# Altium schematic symbol library Processor.SchLib: 6 symbols
Pins are listed as number, name and electrical type; pins without a type are passive.

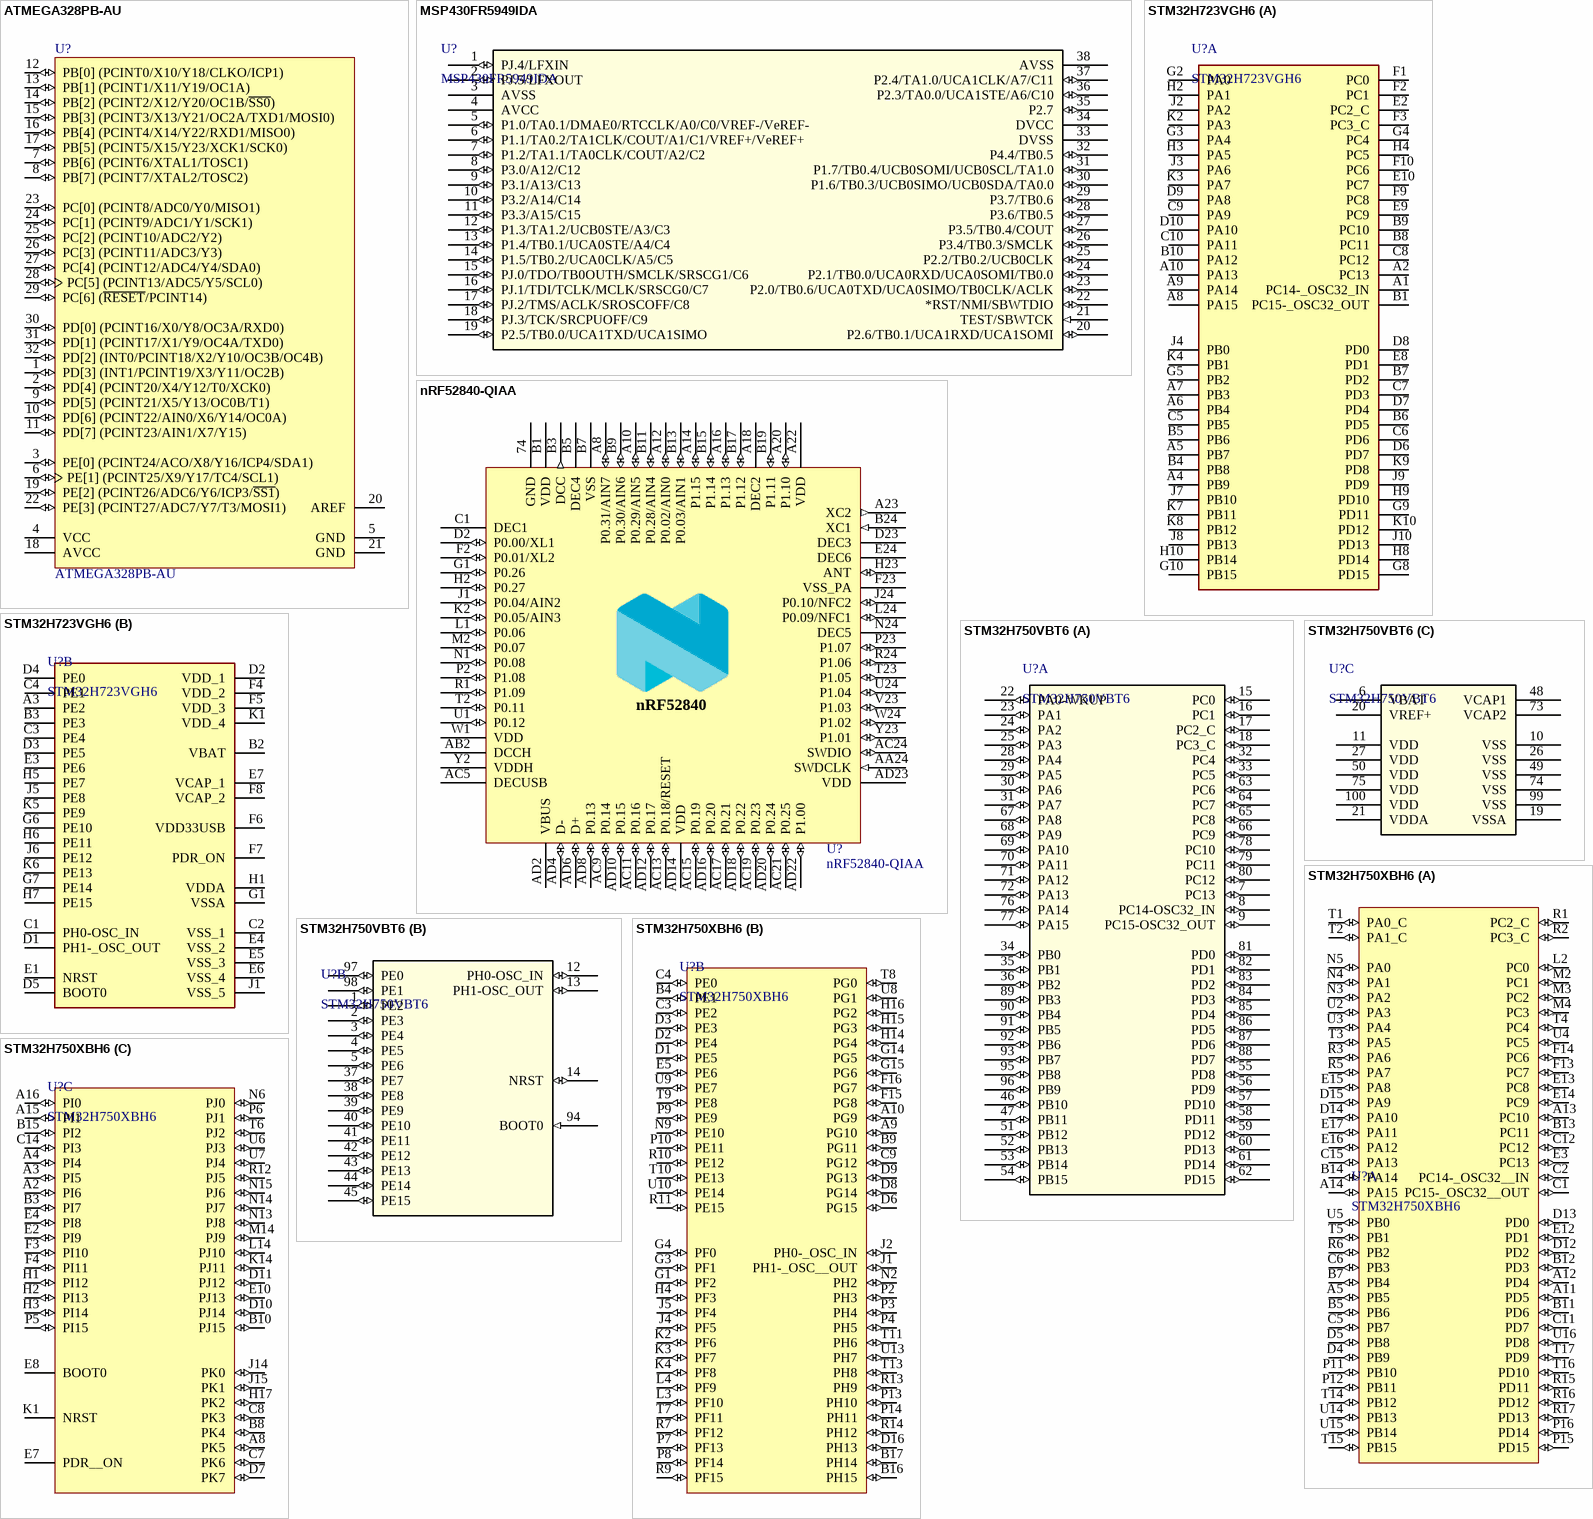
[diagram p0: symbols ATMEGA328PB-AU to STM32H750XBH6]

## ATMEGA328PB-AU
designator U?
AVR Microcontroller, 1.8 to 5.5 V, 32 KB Flash, 1 KB EEPROM, 2 KB SRAM, -40 to 85 degC, 32-Pin TQFP (32A), RoHS, Tray; Manufacturer: Microchip; Datasheet URL: http://ww1.microchip.com/downloads/en/DeviceDoc/40001906A.pdf; Mounting Technology: SurfaceMount; RoHSCompliant: false; Manufacturer URL: http://www.microchip.com/; Package Description: 32-Pin Thin Profile Plastic Quad Flat Package, Body 7 x 7 mm, Pitch 0.8 mm; Package Reference: 32A; Datasheet Version: Rev. A, 04/2017
footprint ATML-32A_L (TQFP, 32-Leads, Body 7x7mm, Pitch 0.8mm, IPC High Density)
footprint ATML-32A_M (TQFP, 32-Leads, Body 7x7mm, Pitch 0.8mm, IPC Low Density)
footprint ATML-32A_N (TQFP, 32-Leads, Body 7x7mm, Pitch 0.8mm, IPC Medium Density)
pins: 1 PD[3] (INT1/PCINT19/X3/Y11/OC2B) (io), 2 PD[4] (PCINT20/X4/Y12/T0/XCK0) (io), 3 PE[0] (PCINT24/ACO/X8/Y16/ICP4/SDA1) (io), 4 VCC (power) "Digital supply voltage.", 5 GND (power) "Ground.", 6 PE[1] (PCINT25/X9/Y17/TC4/SCL1) (io), 7 PB[6] (PCINT6/XTAL1/TOSC1) (io), 8 PB[7] (PCINT7/XTAL2/TOSC2) (io), 9 PD[5] (PCINT21/X5/Y13/OC0B/T1) (io), 10 PD[6] (PCINT22/AIN0/X6/Y14/OC0A) (io), 11 PD[7] (PCINT23/AIN1/X7/Y15) (io), 12 PB[0] (PCINT0/X10/Y18/CLKO/ICP1) (io), 13 PB[1] (PCINT1/X11/Y19/OC1A) (io), 14 PB[2] (PCINT2/X12/Y20/OC1B/~{SS0}) (io), 15 PB[3] (PCINT3/X13/Y21/OC2A/TXD1/MOSI0) (io), 16 PB[4] (PCINT4/X14/Y22/RXD1/MISO0) (io), 17 PB[5] (PCINT5/X15/Y23/XCK1/SCK0) (io), 18 AVCC (power) "AVCC is the supply voltage pin for the A/D Converter, PC[3:0], and PE[3:2]. It should be externally connected to VCC, even if the ADC is not used. If the ADC is used, it should be connected to VCC through a low-pass filter. (See Datasheet)", 19 PE[2] (PCINT26/ADC6/Y6/ICP3/~{SS1}) (io), 20 AREF "AREF is the analog reference pin for the A/D Converter.", 21 GND (power) "Ground.", 22 PE[3] (PCINT27/ADC7/Y7/T3/MOSI1) (io), 23 PC[0] (PCINT8/ADC0/Y0/MISO1) (io), 24 PC[1] (PCINT9/ADC1/Y1/SCK1) (io), 25 PC[2] (PCINT10/ADC2/Y2) (io), 26 PC[3] (PCINT11/ADC3/Y3) (io), 27 PC[4] (PCINT12/ADC4/Y4/SDA0) (io), 28 PC[5] (PCINT13/ADC5/Y5/SCL0) (io), 29 PC[6] (~{RESET}/PCINT14) (io), 30 PD[0] (PCINT16/X0/Y8/OC3A/RXD0) (io), 31 PD[1] (PCINT17/X1/Y9/OC4A/TXD0) (io), 32 PD[2] (INT0/PCINT18/X2/Y10/OC3B/OC4B) (io)

## MSP430FR5949IDA
designator U?
16 MHz MCU with 64KB FRAM, 2KB SRAM, AES, 12-bit ADC, comparator, DMA, UART/SPI/I2C, timer; Mfr_Name: Texas Instruments; RefDes: RefDes; Type: Type; ComponentLink1Description: Reference; ComponentLink1URL: https://www.ti.com/product/MSP430FR5949
footprint DA38_TEX
footprint DA38_TEX-L
footprint DA38_TEX-M
pins: 1 PJ.4/LFXIN (io), 2 PJ.5/LFXOUT (io), 3 AVSS (power), 4 AVCC (power), 5 P1.0/TA0.1/DMAE0/RTCCLK/A0/C0/VREF-/VeREF- (io), 6 P1.1/TA0.2/TA1CLK/COUT/A1/C1/VREF+/VeREF+ (io), 7 P1.2/TA1.1/TA0CLK/COUT/A2/C2 (io), 8 P3.0/A12/C12 (io), 9 P3.1/A13/C13 (io), 10 P3.2/A14/C14 (io), 11 P3.3/A15/C15 (io), 12 P1.3/TA1.2/UCB0STE/A3/C3 (io), 13 P1.4/TB0.1/UCA0STE/A4/C4 (io), 14 P1.5/TB0.2/UCA0CLK/A5/C5 (io), 15 PJ.0/TDO/TB0OUTH/SMCLK/SRSCG1/C6 (io), 16 PJ.1/TDI/TCLK/MCLK/SRSCG0/C7 (io), 17 PJ.2/TMS/ACLK/SROSCOFF/C8 (io), 18 PJ.3/TCK/SRCPUOFF/C9 (io), 19 P2.5/TB0.0/UCA1TXD/UCA1SIMO (io), 20 P2.6/TB0.1/UCA1RXD/UCA1SOMI (io), 21 TEST/SBWTCK (in), 22 *RST/NMI/SBWTDIO (io), 23 P2.0/TB0.6/UCA0TXD/UCA0SIMO/TB0CLK/ACLK (io), 24 P2.1/TB0.0/UCA0RXD/UCA0SOMI/TB0.0 (io), 25 P2.2/TB0.2/UCB0CLK (io), 26 P3.4/TB0.3/SMCLK (io), 27 P3.5/TB0.4/COUT (io), 28 P3.6/TB0.5 (io), 29 P3.7/TB0.6 (io), 30 P1.6/TB0.3/UCB0SIMO/UCB0SDA/TA0.0 (io), 31 P1.7/TB0.4/UCB0SOMI/UCB0SCL/TA1.0 (io), 32 P4.4/TB0.5 (io), 33 DVSS (power), 34 DVCC (power), 35 P2.7 (io), 36 P2.3/TA0.0/UCA1STE/A6/C10 (io), 37 P2.4/TA1.0/UCA1CLK/A7/C11 (io), 38 AVSS (power)

## nRF52840-QIAA
designator U?
Multi-protocol Bluetooth Low Energy, IEEE 802.15.4, ANT and 2.4GHz proprietary system-on-chip; Pad Count: 73; Part Number: nRF52840-QIAA; LatestRevisionDate: 2017-08-21; Published: 2017-08-21; Value: nRF52840-QIAA; Footprint Doc: AQFN-73
footprint nRF52840-QI_Loose (AQFN, 73-Leads, Body 7.00x7.00mm, Pitch 0.50mm, Thermal Pad 4.95x4.95mm, IPC Medium Density. Loose board adaptive.)
footprint nRF52840-QI (AQFN, 73-Leads, Body 7.00x7.00mm, Pitch 0.50mm, Thermal Pad 4.95x4.95mm, IPC Medium Density. Standard)
footprint nRF52840-QI_One_Layer (AQFN, 73-Leads, Body 7.00x7.00mm, Pitch 0.50mm, Thermal Pad 4.95x4.95mm, IPC Medium Density. Standard)
footprint nRF52840-QI_Small_Pads (AQFN, 73-Leads, Body 7.00x7.00mm, Pitch 0.50mm, Thermal Pad 4.95x4.95mm, IPC Medium Density. Standard)
pins: 74 GND (power), A8 P0.31/AIN7 (io), A10 P0.29/AIN5 (io), A12 P0.02/AIN0 (io), A14 P1.15 (io), A16 P1.13 (io), A18 DEC2 (power), A20 P1.10 (io), A22 VDD (power), A23 XC2 (out), AA24 SWDCLK (in), AB2 DCCH (power), AC5 DECUSB (power), AC9 P0.14 (io), AC11 P0.16 (io), AC13 P0.18/RESET (io), AC15 P0.19 (io), AC17 P0.21 (io), AC19 P0.23 (io), AC21 P0.25 (io), AC24 SWDIO (io), AD2 VBUS (power), AD4 D- (io), AD6 D+ (io), AD8 P0.13 (io), AD10 P0.15 (io), AD12 P0.17 (io), AD14 VDD (power), AD16 P0.20 (io), AD18 P0.22 (io), AD20 P0.24 (io), AD22 P1.00 (io), AD23 VDD (power), B1 VDD (power), B3 DCC (out), B5 DEC4 (power), B7 VSS (power), B9 P0.30/AIN6 (io), B11 P0.28/AIN4 (io), B13 P0.03/AIN1 (io), B15 P1.14 (io), B17 P1.12 (io), B19 P1.11 (io), B24 XC1 (in), C1 DEC1 (power), D2 P0.00/XL1 (io), D23 DEC3 (power), E24 DEC6 (power), F2 P0.01/XL2 (io), F23 VSS_PA (power), G1 P0.26 (io), H2 P0.27 (io), H23 ANT (io), J1 P0.04/AIN2 (io), J24 P0.10/NFC2 (io), K2 P0.05/AIN3 (io), L1 P0.06 (io), L24 P0.09/NFC1 (io), M2 P0.07 (io), N1 P0.08 (io), N24 DEC5 (power), P2 P1.08 (io), P23 P1.07 (io), R1 P1.09 (io), R24 P1.06 (io), T2 P0.11 (io), T23 P1.05 (io), U1 P0.12 (io), U24 P1.04 (io), V23 P1.03 (io), W1 VDD (power), W24 P1.02 (io), Y2 VDDH (power), Y23 P1.01 (io)
text: nRF52840

## STM32H723VGH6
designator U?
1MB 80 1.62V~3.6V 550MHz TFBGA-100(8x8x0.8)  Microcontroller Units (MCUs/MPUs/SOCs) ROHS; Manufacturer_Name: STMicroelectronics; Datasheet Link: https://eu.mouser.com/datasheet/2/389/dm00701028-2042058.pdf; Height: 1.1mm; Manufacturer_Part_Number: STM32H723VGH6; Mouser Part Number: 511-STM32H723VGH6; Mouser Price/Stock: https://www.mouser.co.uk/ProductDetail/STMicroelectronics/STM32H723VGH6?qs=sPbYRqrBIVm5sQ3RWXT4fQ%3D%3D; Arrow Part Number: STM32H723VGH6; Arrow Price/Stock: https://www.arrow.com/en/products/stm32h723vgh6/stmicroelectronics?region=nac
footprint TFBGA100C80P10X10_800X800X110 (For STM32)
part A pins: A1 PC14-_OSC32_IN, A2 PC13, A4 PB9, A5 PB7, A6 PB4, A7 PB3, A8 PA15, A9 PA14, A10 PA13, B1 PC15-_OSC32_OUT, B4 PB8, B5 PB6, B6 PD5, B7 PD2, B8 PC11, B9 PC10, B10 PA12, C5 PB5, C6 PD6, C7 PD3, C8 PC12, C9 PA9, C10 PA11, D6 PD7, D7 PD4, D8 PD0, D9 PA8, D10 PA10, E2 PC2_C, E8 PD1, E9 PC9, E10 PC7, F1 PC0, F2 PC1, F3 PC3_C, F9 PC8, F10 PC6, G2 PA0, G3 PA4, G4 PC4, G5 PB2, G8 PD15, G9 PD11, G10 PB15, H2 PA1, H3 PA5, H4 PC5, H8 PD14, H9 PD10, H10 PB14, J2 PA2, J3 PA6, J4 PB0, J7 PB10, J8 PB13, J9 PD9, J10 PD13, K2 PA3, K3 PA7, K4 PB1, K7 PB11, K8 PB12, K9 PD8, K10 PD12
part B pins: A3 PE2, B2 VBAT, B3 PE3, C1 PH0-OSC_IN, C2 VSS_1, C3 PE4, C4 PE1, D1 PH1-_OSC_OUT, D2 VDD_1, D3 PE5, D4 PE0, D5 BOOT0, E1 NRST, E3 PE6, E4 VSS_2, E5 VSS_3, E6 VSS_4, E7 VCAP_1, F4 VDD_2, F5 VDD_3, F6 VDD33USB, F7 PDR_ON, F8 VCAP_2, G1 VSSA, G6 PE10, G7 PE14, H1 VDDA, H5 PE7, H6 PE11, H7 PE15, J1 VSS_5, J5 PE8, J6 PE12, K1 VDD_4, K5 PE9, K6 PE13

## STM32H750VBT6
designator U?
ARM® Cortex®-M7 STM32H7 Microcontroller IC 32-Bit Single-Core 480MHz 128KB (128K x 8) FLASH 100-LQFP (14x14); Mfr_Name: STMicroelectronics; RefDes: RefDes; Type: Type
footprint LQFP100-14x14mm
part A pins: 7 PC13 (io), 8 PC14-OSC32_IN (io), 9 PC15-OSC32_OUT (io), 15 PC0 (io), 16 PC1 (io), 17 PC2_C (io), 18 PC3_C (io), 22 PA0-WKUP (io), 23 PA1 (io), 24 PA2 (io), 25 PA3 (io), 28 PA4 (io), 29 PA5 (io), 30 PA6 (io), 31 PA7 (io), 32 PC4 (io), 33 PC5 (io), 34 PB0 (io), 35 PB1 (io), 36 PB2 (io), 46 PB10 (io), 47 PB11 (io), 51 PB12 (io), 52 PB13 (io), 53 PB14 (io), 54 PB15 (io), 55 PD8 (io), 56 PD9 (io), 57 PD10 (io), 58 PD11 (io), 59 PD12 (io), 60 PD13 (io), 61 PD14 (io), 62 PD15 (io), 63 PC6 (io), 64 PC7 (io), 65 PC8 (io), 66 PC9 (io), 67 PA8 (io), 68 PA9 (io), 69 PA10 (io), 70 PA11 (io), 71 PA12 (io), 72 PA13 (io), 76 PA14 (io), 77 PA15 (io), 78 PC10 (io), 79 PC11 (io), 80 PC12 (io), 81 PD0 (io), 82 PD1 (io), 83 PD2 (io), 84 PD3 (io), 85 PD4 (io), 86 PD5 (io), 87 PD6 (io), 88 PD7 (io), 89 PB3 (io), 90 PB4 (io), 91 PB5 (io), 92 PB6 (io), 93 PB7 (io), 95 PB8 (io), 96 PB9 (io)
part B pins: 1 PE2 (io), 2 PE3 (io), 3 PE4 (io), 4 PE5 (io), 5 PE6 (io), 12 PH0-OSC_IN (io), 13 PH1-OSC_OUT (io), 14 NRST (io), 37 PE7 (io), 38 PE8 (io), 39 PE9 (io), 40 PE10 (io), 41 PE11 (io), 42 PE12 (io), 43 PE13 (io), 44 PE14 (io), 45 PE15 (io), 94 BOOT0 (in), 97 PE0 (io), 98 PE1 (io)
part C pins: 6 VBAT (power), 10 VSS (power), 11 VDD (power), 19 VSSA (power), 20 VREF+ (power), 21 VDDA (power), 26 VSS (power), 27 VDD (power), 48 VCAP1 (power), 49 VSS (power), 50 VDD (power), 73 VCAP2 (power), 74 VSS (power), 75 VDD (power), 99 VSS (power), 100 VDD (power)

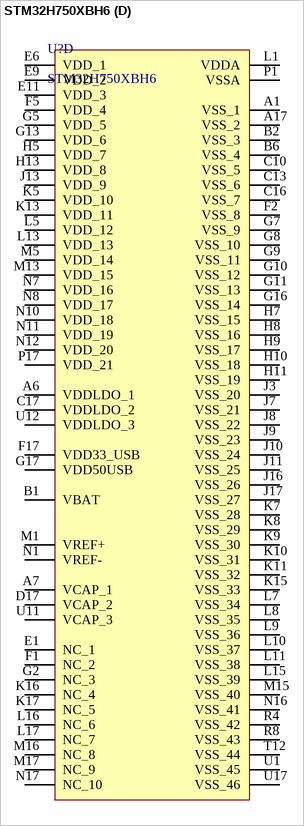
[diagram p1: symbol STM32H750XBH6]

## STM32H750XBH6
designator U?
128KB 1.62V~3.6V 1MB 480MHz FLASH 168 TFBGA-265  Microcontroller Units (MCUs/MPUs/SOCs) ROHS; Manufacturer_Name: STMicroelectronics; Datasheet Link: https://www.st.com/resource/en/datasheet/stm32h750ib.pdf; Height: 1.1mm; Manufacturer_Part_Number: STM32H750XBH6; Mouser Part Number: 511-STM32H750XBH6; Mouser Price/Stock: https://www.mouser.co.uk/ProductDetail/STMicroelectronics/STM32H750XBH6?qs=%252BEew9%252B0nqrB%2FAH4I96zlUA%3D%3D; Arrow Part Number: STM32H750XBH6; Arrow Price/Stock: https://www.arrow.com/en/products/stm32h750xbh6/stmicroelectronics?region=nac
footprint TFBGA265C80P17X17_1400X1400X110 (For STM32 XxBx)
part A pins: A5 PB5 (io), A11 PD5 (io), A12 PD4 (io), A13 PC10 (io), A14 PA15 (io), B5 PB6 (io), B7 PB4 (io), B11 PD6 (io), B12 PD3 (io), B13 PC11 (io), B14 PA14 (io), C1 PC15-_OSC32__OUT (io), C2 PC14-_OSC32__IN (io), C5 PB7 (io), C6 PB3 (io), C11 PD7 (io), C12 PC12 (io), C15 PA13 (io), D4 PB9 (io), D5 PB8 (io), D12 PD2 (io), D13 PD0 (io), D14 PA10 (io), D15 PA9 (io), E3 PC13 (io), E12 PD1 (io), E13 PC8 (io), E14 PC9 (io), E15 PA8 (io), E16 PA12 (io), E17 PA11 (io), F13 PC7 (io), F14 PC6 (io), L2 PC0 (io), M2 PC1 (io), M3 PC2 (io), M4 PC3 (io), N3 PA2 (io), N4 PA1 (io), N5 PA0 (io), P11 PB10 (io), P12 PB11 (io), P15 PD15 (io), P16 PD14 (io), R1 PC2_C (io), R2 PC3_C (io), R3 PA6 (io), R5 PA7 (io), R6 PB2 (io), R15 PD11 (io), R16 PD12 (io), R17 PD13 (io), T1 PA0_C (io), T2 PA1_C (io), T3 PA5 (io), T4 PC4 (io), T5 PB1 (io), T14 PB12 (io), T15 PB15 (io), T16 PD10 (io), T17 PD9 (io), U2 PA3 (io), U3 PA4 (io), U4 PC5 (io), U5 PB0 (io), U14 PB13 (io), U15 PB14 (io), U16 PD8 (io)
part B pins: A9 PG10 (io), A10 PG9 (io), B4 PE1 (io), B9 PG11 (io), B16 PH15 (io), B17 PH14 (io), C3 PE2 (io), C4 PE0 (io), C9 PG12 (io), D1 PE5 (io), D2 PE4 (io), D3 PE3 (io), D6 PG15 (io), D8 PG14 (io), D9 PG13 (io), D16 PH13 (io), E5 PE6 (io), F15 PG8 (io), F16 PG7 (io), G1 PF2 (io), G3 PF1 (io), G4 PF0 (io), G14 PG5 (io), G15 PG6 (io), H4 PF3 (io), H14 PG4 (io), H15 PG3 (io), H16 PG2 (io), J1 PH1-_OSC__OUT (io), J2 PH0-_OSC_IN (io), J4 PF5 (io), J5 PF4 (io), K2 PF6 (io), K3 PF7 (io), K4 PF8 (io), L3 PF10 (io), L4 PF9 (io), N2 PH2 (io), N9 PE10 (io), P2 PH3 (io), P3 PH4 (io), P4 PH5 (io), P7 PF13 (io), P8 PF14 (io), P9 PE9 (io), P10 PE11 (io), P13 PH10 (io), P14 PH11 (io), R7 PF12 (io), R9 PF15 (io), R10 PE12 (io), R11 PE15 (io), R13 PH9 (io), R14 PH12 (io), T7 PF11 (io), T8 PG0 (io), T9 PE8 (io), T10 PE13 (io), T11 PH6 (io), T13 PH8 (io), U8 PG1 (io), U9 PE7 (io), U10 PE14 (io), U13 PH7 (io)
part C pins: A2 PI6 (io), A3 PI5 (io), A4 PI4 (io), A8 PK5 (io), A15 PI1 (io), A16 PI0 (io), B3 PI7 (io), B8 PK4 (io), B10 PJ15 (io), B15 PI2 (io), C7 PK6 (io), C8 PK3 (io), C14 PI3 (io), D7 PK7 (io), D10 PJ14 (io), D11 PJ12 (io), E2 PI9 (io), E4 PI8 (io), E7 PDR__ON, E8 BOOT0, E10 PJ13 (io), F3 PI10 (io), F4 PI11 (io), H1 PI12 (io), H2 PI13 (io), H3 PI14 (io), H17 PK2 (io), J14 PK0 (io), J15 PK1 (io), K1 NRST, K14 PJ11 (io), L14 PJ10 (io), M14 PJ9 (io), N6 PJ0 (io), N13 PJ8 (io), N14 PJ7 (io), N15 PJ6 (io), P5 PI15 (io), P6 PJ1 (io), R12 PJ5 (io), T6 PJ2 (io), U6 PJ3 (io), U7 PJ4 (io)
part D pins: A1 VSS_1 (power), A6 VDDLDO_1 (power), A7 VCAP_1, A17 VSS_2 (power), B1 VBAT (power), B2 VSS_3 (power), B6 VSS_4 (power), C10 VSS_5 (power), C13 VSS_6 (power), C16 VSS_7 (power), C17 VDDLDO_2 (power), D17 VCAP_2, E1 NC_1, E6 VDD_1 (power), E9 VDD_2 (power), E11 VDD_3 (power), F1 NC_2, F2 VSS_8 (power), F5 VDD_4 (power), F17 VDD33_USB (power), G2 NC_3, G5 VDD_5 (power), G7 VSS_9 (power), G8 VSS_10 (power), G9 VSS_11 (power), G10 VSS_12 (power), G11 VSS_13 (power), G13 VDD_6 (power), G16 VSS_14 (power), G17 VDD50USB (power), H5 VDD_7 (power), H7 VSS_15 (power), H8 VSS_16 (power), H9 VSS_17 (power), H10 VSS_18 (power), H11 VSS_19 (power), H13 VDD_8 (power), J3 VSS_20 (power), J7 VSS_21 (power), J8 VSS_22 (power), J9 VSS_23 (power), J10 VSS_24 (power), J11 VSS_25 (power), J13 VDD_9 (power), J16 VSS_26 (power), J17 VSS_27 (power), K5 VDD_10 (power), K7 VSS_28 (power), K8 VSS_29 (power), K9 VSS_30 (power), K10 VSS_31 (power), K11 VSS_32 (power), K13 VDD_11 (power), K15 VSS_33 (power), K16 NC_4, K17 NC_5, L1 VDDA (power), L5 VDD_12 (power), L7 VSS_34 (power), L8 VSS_35 (power), L9 VSS_36 (power), L10 VSS_37 (power), L11 VSS_38 (power), L13 VDD_13 (power), L15 VSS_39 (power), L16 NC_6, L17 NC_7, M1 VREF+ (power), M5 VDD_14 (power), M13 VDD_15 (power), M15 VSS_40 (power), M16 NC_8, M17 NC_9, N1 VREF- (power), N7 VDD_16 (power), N8 VDD_17 (power), N10 VDD_18 (power), N11 VDD_19 (power), N12 VDD_20 (power), N16 VSS_41 (power), N17 NC_10, P1 VSSA (power), P17 VDD_21 (power), R4 VSS_42 (power), R8 VSS_43 (power), T12 VSS_44 (power), U1 VSS_45 (power), U11 VCAP_3, U12 VDDLDO_3 (power), U17 VSS_46 (power)